# Altium footprint library Vishay Draloric Ceramic Tubular Capacitor.PcbLib: 65 footprints (part 3 of 5)
Each footprint in its own frame and in the unit in brackets; x right, y up, seen from the top. Pads: shape width x height; smd on the part's side, far side on the other; paste and mask are expansions set on the pad; w line width, h text height; cw(c..) or ccw(c..) is an arc to the next point about the centre after c.
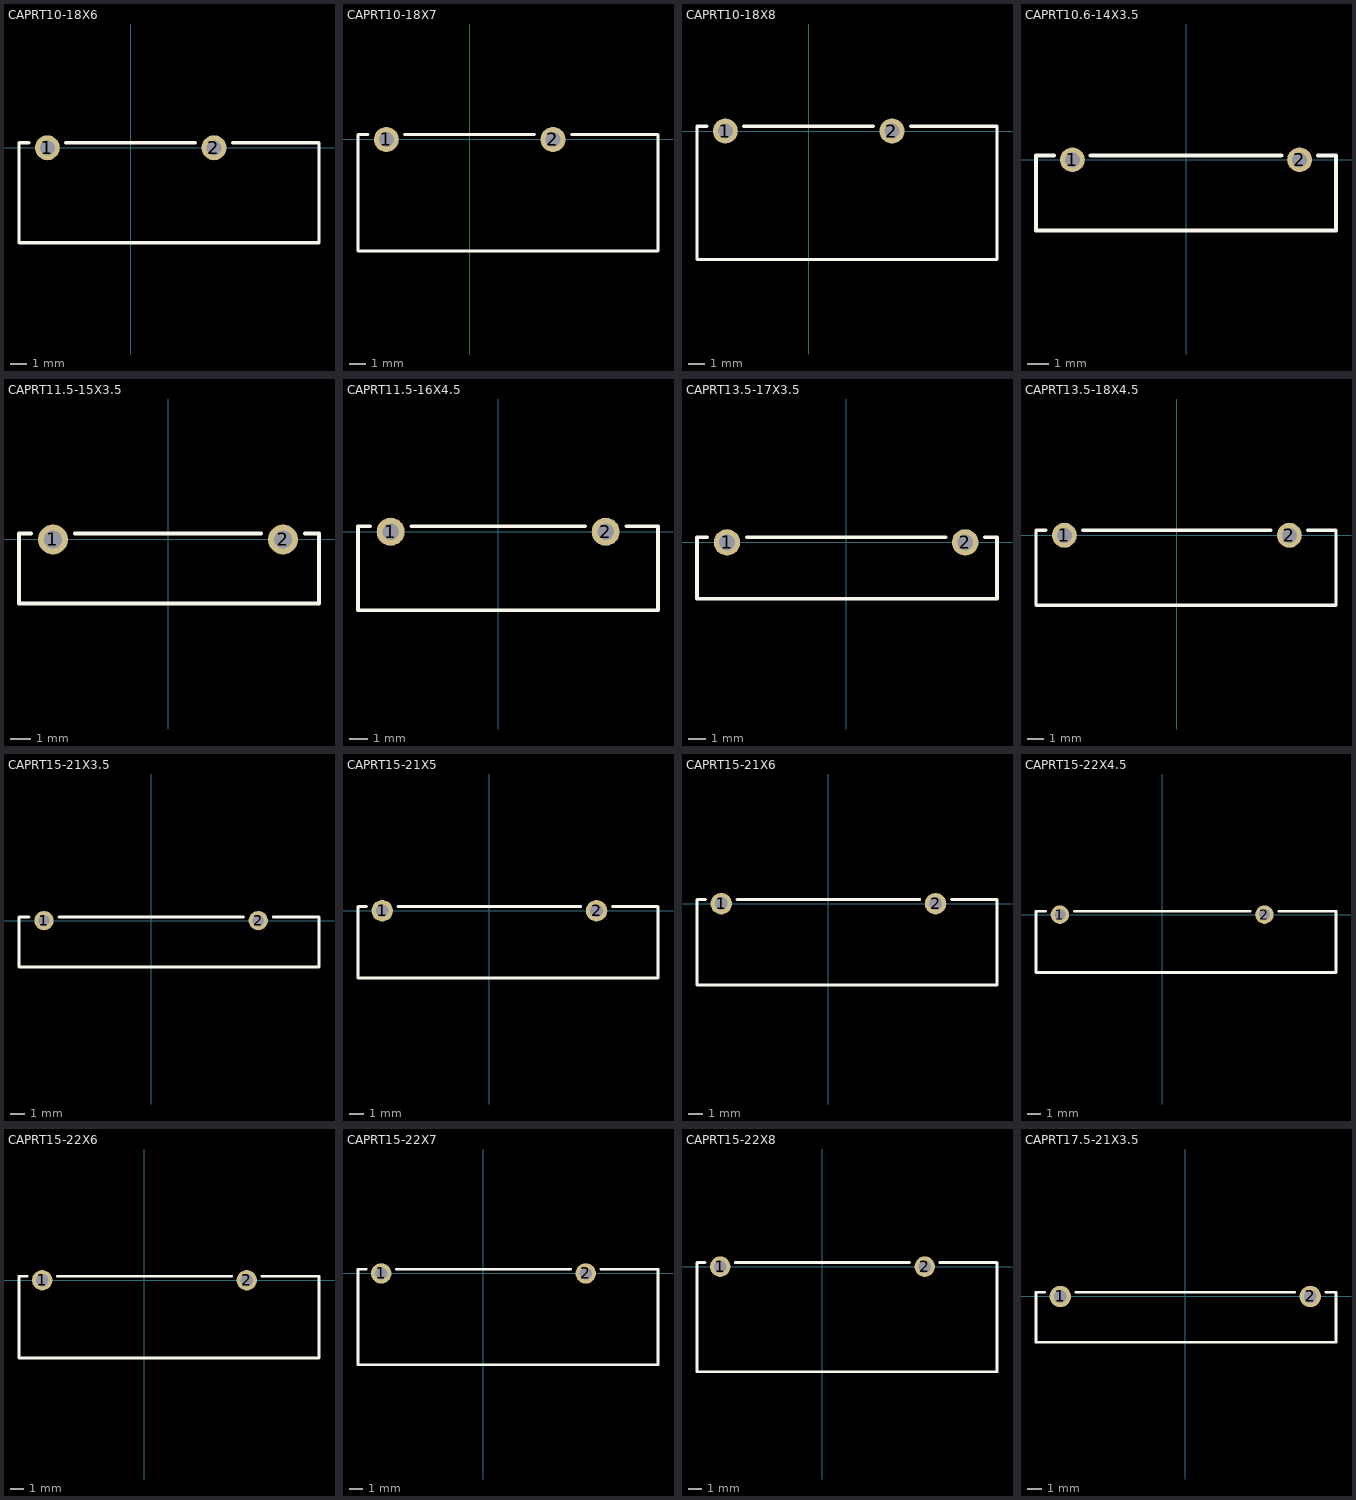
[diagram p2: the footprints below, top view; thin cyan lines are the x and y axes]

## CAPRT10-18X6 [mm] "Capacitor, Ceramic, Thu-Hole, Tubular; Body 18 x 6 mm (LxDia. max) Pin Spacing 10 mm (typ)"
height 9
pads (2):
  round 1.5 hole 0.9: 1(-5,0) 2(5,0)
Top Overlay:
  lines w0.2: -6.11,0.3 -6.7,0.3 -6.7,-5.7 11.3,-5.7 11.3,0.3 6.11,0.3 ; -3.89,0.3 3.89,0.3

## CAPRT10-18X7 [mm] "Capacitor, Ceramic, Thu-Hole, Tubular; Body 18 x 7 mm (LxDia. max) Pin Spacing 10 mm (typ)"
height 10
pads (2):
  round 1.5 hole 0.9: 1(-5,0) 2(5,0)
Top Overlay:
  lines w0.2: -6.11,0.3 -6.7,0.3 -6.7,-6.7 11.3,-6.7 11.3,0.3 6.11,0.3 ; -3.89,0.3 3.89,0.3

## CAPRT10-18X8 [mm] "Capacitor, Ceramic, Thu-Hole, Tubular; Body 18 x 8 mm (LxDia. max) Pin Spacing 10 mm (typ)"
height 11
pads (2):
  round 1.5 hole 0.9: 1(-5,0) 2(5,0)
Top Overlay:
  lines w0.2: -6.11,0.3 -6.7,0.3 -6.7,-7.7 11.3,-7.7 11.3,0.3 6.11,0.3 ; -3.89,0.3 3.89,0.3

## CAPRT10.6-14X3.5 [mm] "Capacitor, Ceramic, Thu-Hole, Tubular; Body 14 x 3.5 mm (LxDia. max) Pin Spacing 10.6 mm (typ)"
height 6.5
pads (2):
  round 1.15 hole 0.7: 1(-5.3,0) 2(5.3,0)
Top Overlay:
  lines w0.2: -6.16,0.2 -7,0.2 -7,-3.3 7,-3.3 7,0.2 6.16,0.2 ; -4.44,0.2 4.44,0.2

## CAPRT11.5-15X3.5 [mm] "Capacitor, Ceramic, Thu-Hole, Tubular; Body 15 x 3.5 mm (LxDia. max) Pin Spacing 11.5 mm (typ)"
height 5.5
pads (2):
  round 1.5 hole 0.9: 1(-5.75,0) 2(5.75,0)
Top Overlay:
  lines w0.2: -6.86,0.3 -7.45,0.3 -7.45,-3.2 7.55,-3.2 7.55,0.3 6.86,0.3 ; -4.64,0.3 4.64,0.3

## CAPRT11.5-16X4.5 [mm] "Capacitor, Ceramic, Thu-Hole, Tubular; Body 16 x 4.5 mm (LxDia. max) Pin Spacing 11.5 mm (typ)"
height 7.5
pads (2):
  round 1.5 hole 0.9: 1(-5.75,0) 2(5.75,0)
Top Overlay:
  lines w0.2: -7.5,-4.2 -7.5,0.3 ; -7.45,-4.2 8.55,-4.2 8.55,0.3 6.86,0.3 ; -7.45,0.3 -6.86,0.3 ; -4.64,0.3 4.64,0.3

## CAPRT13.5-17X3.5 [mm] "Capacitor, Ceramic, Thu-Hole, Tubular; Body 17 x 3.5 mm (LxDia. max) Pin Spacing 13.5 mm (typ)"
height 5.5
pads (2):
  round 1.5 hole 0.9: 1(-6.75,0) 2(6.75,0)
Top Overlay:
  lines w0.2: -7.86,0.3 -8.45,0.3 -8.45,-3.2 8.55,-3.2 8.55,0.3 7.86,0.3 ; -5.64,0.3 5.64,0.3

## CAPRT13.5-18X4.5 [mm] "Capacitor, Ceramic, Thu-Hole, Tubular; Body 18 x 4.5 mm (LxDia. max) Pin Spacing 13.5 mm (typ)"
height 7.5
pads (2):
  round 1.5 hole 0.9: 1(-6.75,0) 2(6.75,0)
Top Overlay:
  lines w0.2: -7.86,0.3 -8.45,0.3 -8.45,-4.2 9.55,-4.2 9.55,0.3 7.86,0.3 ; -5.64,0.3 5.64,0.3

## CAPRT15-21X3.5 [mm] "Capacitor, Ceramic, Thu-Hole, Tubular; Body 21 x 3.5 mm (LxDia. max) Pin Spacing 15 mm (typ)"
height 5.5
pads (2):
  round 1.35 hole 0.8: 1(-7.5,0) 2(7.5,0)
Top Overlay:
  lines w0.2: -8.546,0.25 -9.25,0.25 -9.25,-3.25 11.75,-3.25 11.75,0.25 8.546,0.25 ; -6.454,0.25 6.454,0.25

## CAPRT15-21X5 [mm] "Capacitor, Ceramic, Thu-Hole, Tubular; Body 21 x 5 mm (LxDia. max) Pin Spacing 15 mm (typ)"
height 7
pads (2):
  round 1.5 hole 0.9: 1(-7.5,0) 2(7.5,0)
Top Overlay:
  lines w0.2: -8.61,0.3 -9.2,0.3 -9.2,-4.7 11.8,-4.7 11.8,0.3 8.61,0.3 ; -6.39,0.3 6.39,0.3

## CAPRT15-21X6 [mm] "Capacitor, Ceramic, Thu-Hole, Tubular; Body 21 x 6 mm (LxDia. max) Pin Spacing 15 mm (typ)"
height 8
pads (2):
  round 1.5 hole 0.9: 1(-7.5,0) 2(7.5,0)
Top Overlay:
  lines w0.2: -8.61,0.3 -9.2,0.3 -9.2,-5.7 11.8,-5.7 11.8,0.3 8.61,0.3 ; -6.39,0.3 6.39,0.3

## CAPRT15-22X4.5 [mm] "Capacitor, Ceramic, Thu-Hole, Tubular; Body 22 x 4.5 mm (LxDia. max) Pin Spacing 15 mm (typ)"
height 7.5
pads (2):
  round 1.35 hole 0.8: 1(-7.5,0) 2(7.5,0)
Top Overlay:
  lines w0.2: -8.546,0.25 -9.25,0.25 -9.25,-4.25 12.75,-4.25 12.75,0.25 8.546,0.25 ; -6.454,0.25 6.454,0.25

## CAPRT15-22X6 [mm] "Capacitor, Ceramic, Thu-Hole, Tubular; Body 22 x 6 mm (LxDia. max) Pin Spacing 15 mm (typ)"
height 9
pads (2):
  round 1.5 hole 0.9: 1(-7.5,0) 2(7.5,0)
Top Overlay:
  lines w0.2: -8.61,0.3 -9.2,0.3 -9.2,-5.7 12.8,-5.7 12.8,0.3 8.61,0.3 ; -6.39,0.3 6.39,0.3

## CAPRT15-22X7 [mm] "Capacitor, Ceramic, Thu-Hole, Tubular; Body 22 x 7 mm (LxDia. max) Pin Spacing 15 mm (typ)"
height 10
pads (2):
  round 1.5 hole 0.9: 1(-7.5,0) 2(7.5,0)
Top Overlay:
  lines w0.2: -8.61,0.3 -9.2,0.3 -9.2,-6.7 12.8,-6.7 12.8,0.3 8.61,0.3 ; -6.39,0.3 6.39,0.3

## CAPRT15-22X8 [mm] "Capacitor, Ceramic, Thu-Hole, Tubular; Body 22 x 8 mm (LxDia. max) Pin Spacing 15 mm (typ)"
height 11
pads (2):
  round 1.5 hole 0.9: 1(-7.5,0) 2(7.5,0)
Top Overlay:
  lines w0.2: -8.61,0.3 -9.2,0.3 -9.2,-7.7 12.8,-7.7 12.8,0.3 8.61,0.3 ; -6.39,0.3 6.39,0.3

## CAPRT17.5-21X3.5 [mm] "Capacitor, Ceramic, Thu-Hole, Tubular; Body 21 x 3.5 mm (LxDia. max) Pin Spacing 17.5 mm (typ)"
height 5.5
pads (2):
  round 1.5 hole 0.9: 1(-8.75,0) 2(8.75,0)
Top Overlay:
  lines w0.2: -9.86,0.3 -10.45,0.3 -10.45,-3.2 10.55,-3.2 10.55,0.3 9.86,0.3 ; -7.64,0.3 7.64,0.3